# Altium footprint library Motion Controller.PcbLib: 208 footprints (part 12 of 13)
Each footprint in its own frame and in the unit in brackets; x right, y up, seen from the top. Pads: shape width x height; smd on the part's side, far side on the other; paste and mask are expansions set on the pad; w line width, h text height; cw(c..) or ccw(c..) is an arc to the next point about the centre after c.
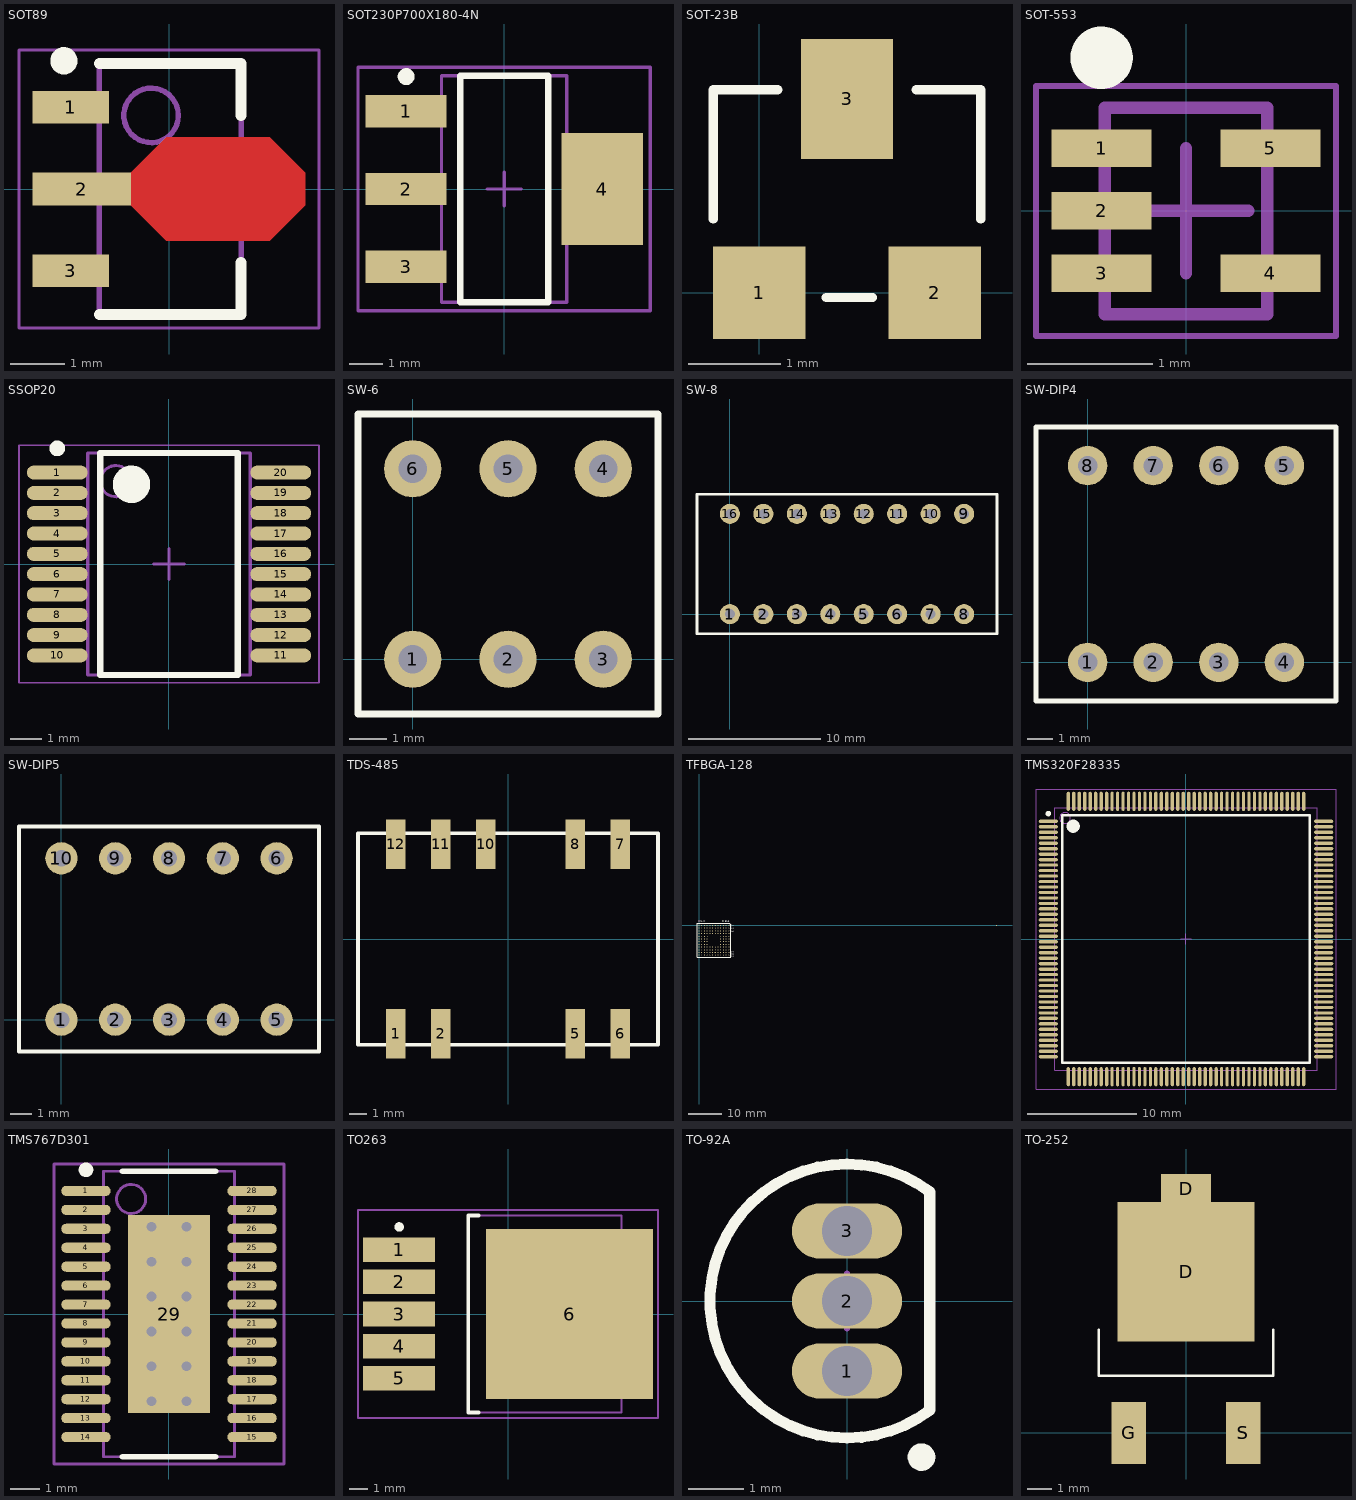
[diagram p11: the footprints below, top view; thin cyan lines are the x and y axes]

## SOT89 [mm] "SOT89, 3-Leads, Body 4.50x2.45mm, Pitch 1.50mm, Lead Span 4.1mm, IPC Medium Density"
height 1.5
pads (3):
  rect 1.4x0.6 smd: 1(-1.8,1.5) 3(-1.8,-1.5)
  rect 1.8x0.6 smd: 2(-1.6,0)
Top Layer:
  region: -0.7,0.3 -0.05,0.95 1.85,0.95 2.5,0.3 2.5,-0.3 1.85,-0.95 -0.05,-0.95 -0.7,-0.3
Top Overlay:
  circle w0.25: c-1.927,2.35 r0.125
  lines w0.2: -1.278,-2.3 1.322,-2.3 1.322,-1.35 ; -1.278,2.3 1.322,2.3 1.322,1.35
Mechanical 13:
  circle w0.1: c-0.327,1.35 r0.5
  lines w0.1: -1.278,-2.3 1.322,-2.3 1.322,2.3 -1.278,2.3 -1.278,-2.3
Mechanical 15:
  lines w0.05: -2.75,-2.55 2.75,-2.55 2.75,2.55 -2.75,2.55 -2.75,-2.55
  lines w0.1: -0.477,0 0.523,0 ; 0.022,-0.5 0.022,0.5
3D body: height 1.5, standoff 0, extent -1.278,-2.3 1.322,2.3

## SOT230P700X180-4N [mm] "SOT223, 4-Leads, Body 6.7x7.3mm (max), Pitch 2.30mm, IPC Medium Density"
height 1.8
pads (4):
  rect 2.4x0.95 smd: 1(-2.9,2.3) 2(-2.9,0) 3(-2.9,-2.3)
  rect 2.4x3.3 smd: 4(2.9,0)
Top Overlay:
  circle w0.25: c-2.9,3.325 r0.125
  lines w0.2: -1.3,-3.35 1.3,-3.35 1.3,3.35 -1.3,3.35 -1.3,-3.35
Mechanical 13:
  lines w0.1: -1.855,-3.35 1.855,-3.35 1.855,3.35 -1.855,3.35 -1.855,-3.35
Mechanical 15:
  lines w0.1: -0.5,0 0.5,0 ; 0,-0.5 0,0.5 ; -4.325,-3.6 4.325,-3.6 4.325,3.6 -4.325,3.6 -4.325,-3.6
3D body: height 1.8, standoff 0.03, extent -1.855,-3.35 1.855,3.35

## SOT-23B [mm]
pads (3):
  rect 1x1 smd: 1(0,0) 2(1.9,0)
  rect 1x1.3 smd: 3(0.95,2.1)
Top Overlay:
  lines w0.1: -0.5,0.8 -0.5,2.2 0.2,2.2 ; 0.725,-0.05 1.225,-0.05 ; 1.7,2.2 2.4,2.2 2.4,0.8

## SOT-553 [mm] "SOTFL, 5-Leads, Body 1.60x1.60mm, Pitch 0.50mm, IPC Medium Density"
height 0.57
pads (5):
  rect 0.8x0.3 smd: 1(-0.675,0.5) 2(-0.675,0) 3(-0.675,-0.5) 4(0.675,-0.5) 5(0.675,0.5)
Top Overlay:
  circle w0.25: c-0.675,1.225 r0.125
Mechanical 13:
  lines w0.1: -0.65,-0.825 -0.65,0.825 0.65,0.825 0.65,-0.825 -0.65,-0.825
Mechanical 15:
  lines w0.05: -1.2,-1 -1.2,1 1.2,1 1.2,-1 -1.2,-1
  lines w0.1: -0.5,0 0.5,0 ; 0,-0.5 0,0.5
3D body: height 0.57, standoff 0, extent -0.65,-0.825 0.65,0.825

## SSOP20 [mm]
height 2
pads (20):
  oval 1.95x0.45 smd: 1(-3.575,2.925) 2(-3.575,2.275) 3(-3.575,1.625) 4(-3.575,0.975) 5(-3.575,0.325) 6(-3.575,-0.325) 7(-3.575,-0.975) 8(-3.575,-1.625) 9(-3.575,-2.275) 10(-3.575,-2.925) 11(3.575,-2.925) 12(3.575,-2.275) 13(3.575,-1.625) 14(3.575,-0.975) 15(3.575,-0.325) 16(3.575,0.325) 17(3.575,0.975) 18(3.575,1.625) 19(3.575,2.275) 20(3.575,2.925)
Top Overlay:
  circle w0.6: c-1.2,2.55 r0.3
  circle w0.25: c-3.575,3.7 r0.125
  lines w0.2: -2.2,-3.55 2.2,-3.55 2.2,3.55 -2.2,3.55 -2.2,-3.55
Mechanical 13:
  circle w0.1: c-1.7,2.65 r0.5
  lines w0.1: -2.6,-3.55 2.6,-3.55 2.6,3.55 -2.6,3.55 -2.6,-3.55
Mechanical 15:
  lines w0.05: -4.8,-3.8 4.8,-3.8 4.8,3.8 -4.8,3.8 -4.8,-3.8
  lines w0.1: -0.5,0 0.5,0 ; 0,-0.5 0,0.5
3D body: height 2, standoff 0.05, extent -2.6,-3.55 2.6,3.55

## SW-6 [mil]
pads (6):
  round 60 hole 30: 1(0,0) 2(100,0) 3(200,0) 4(200,200) 5(100,200) 6(0,200)
Top Overlay:
  lines w7.87: -57.48,-57.48 257.48,-57.48 257.48,257.48 -57.48,257.48 -57.48,-57.48

## SW-8 [mil]
pads (16):
  round 60 hole 30: 1(0,0) 2(100,0) 3(200,0) 4(300,0) 5(400,0) 6(500,0) 7(600,0) 8(700,0) 9(700,300) 10(600,300) 11(500,300) 12(400,300) 13(300,300) 14(200,300) 15(100,300) 16(0,300)
Top Overlay:
  lines w7.87: -98.43,-59.06 798.43,-59.06 798.43,359.06 -98.43,359.06 -98.43,-59.06

## SW-DIP4 [mil]
pads (8):
  round 60 hole 30: 1(0,0) 2(100,0) 3(200,0) 4(300,0) 5(300,300) 6(200,300) 7(100,300) 8(0,300)
Top Overlay:
  lines w7.87: -78.74,-59.06 378.74,-59.06 378.74,359.06 -78.74,359.06 -78.74,-59.06

## SW-DIP5 [mil]
pads (10):
  round 60 hole 30: 1(0,0) 2(100,0) 3(200,0) 4(300,0) 5(400,0) 6(400,300) 7(300,300) 8(200,300) 9(100,300) 10(0,300)
Top Overlay:
  lines w7.87: -78.74,-59.06 -78.74,359.06 478.74,359.06 478.74,-59.06 -78.74,-59.06

## TDS-485 [mm]
pads (9):
  rect 1.1x2.8 smd: 1(-6.35,-5.37) 2(-3.81,-5.37) 5(3.81,-5.37) 6(6.35,-5.37) 7(6.35,5.37) 8(3.81,5.37) 10(-1.27,5.37) 11(-3.81,5.37) 12(-6.35,5.37)
Top Overlay:
  lines w0.2: -8.5,-6 -8.5,6 8.5,6 8.5,-6 -8.5,-6

## TFBGA-128 [mm]
pads (129):
  round 0.3 smd: 1(88,0) A1(8.8,0) A2(8.8,-0.8) A3(8.8,-1.6) A4(8.8,-2.4) A5(8.8,-3.2) A6(8.8,-4) A7(8.8,-4.8) A8(8.8,-5.6) A9(8.8,-6.4) A10(8.8,-7.2) A11(8.8,-8) A12(8.8,-8.8) B1(8,0) B2(8,-0.8) B3(8,-1.6) B4(8,-2.4) B5(8,-3.2) B6(8,-4) B7(8,-4.8) B8(8,-5.6) B9(8,-6.4) B10(8,-7.2) B11(8,-8) B12(8,-8.8) C1(7.2,0) C2(7.2,-0.8) C3(7.2,-1.6) C4(7.2,-2.4) C5(7.2,-3.2) C6(7.2,-4) C7(7.2,-4.8) C8(7.2,-5.6) C9(7.2,-6.4) C10(7.2,-7.2) C11(7.2,-8) C12(7.2,-8.8) D1(6.4,0) D2(6.4,-0.8) D3(6.4,-1.6) D4(6.4,-2.4) D5(6.4,-3.2) D6(6.4,-4) D7(6.4,-4.8) D8(6.4,-5.6) D9(6.4,-6.4) D10(6.4,-7.2) D11(6.4,-8) D12(6.4,-8.8) E1(5.6,0) E2(5.6,-0.8) E3(5.6,-1.6) E4(5.6,-2.4) E9(5.6,-6.4) E10(5.6,-7.2) E11(5.6,-8) E12(5.6,-8.8) F1(4.8,0) F2(4.8,-0.8) F3(4.8,-1.6) F4(4.8,-2.4) F9(4.8,-6.4) F10(4.8,-7.2) F11(4.8,-8) F12(4.8,-8.8) G1(4,0) G2(4,-0.8) G3(4,-1.6) G4(4,-2.4) G9(4,-6.4) G10(4,-7.2) G11(4,-8) G12(4,-8.8) H1(3.2,0) H2(3.2,-0.8) H3(3.2,-1.6) H4(3.2,-2.4) H9(3.2,-6.4) H10(3.2,-7.2) H11(3.2,-8) H12(3.2,-8.8) J1(2.4,0) J2(2.4,-0.8) J3(2.4,-1.6) J4(2.4,-2.4) J5(2.4,-3.2) J6(2.4,-4) J7(2.4,-4.8) J8(2.4,-5.6) J9(2.4,-6.4) J10(2.4,-7.2) J11(2.4,-8) J12(2.4,-8.8) K1(1.6,0) K2(1.6,-0.8) K3(1.6,-1.6) K4(1.6,-2.4) K5(1.6,-3.2) K6(1.6,-4) K7(1.6,-4.8) K8(1.6,-5.6) K9(1.6,-6.4) K10(1.6,-7.2) K11(1.6,-8) K12(1.6,-8.8) L1(0.8,0) L2(0.8,-0.8) L3(0.8,-1.6) L4(0.8,-2.4) L5(0.8,-3.2) L6(0.8,-4) L7(0.8,-4.8) L8(0.8,-5.6) L9(0.8,-6.4) L10(0.8,-7.2) L11(0.8,-8) L12(0.8,-8.8) M1(0,0) M2(0,-0.8) M3(0,-1.6) M4(0,-2.4) M5(0,-3.2) M6(0,-4) M7(0,-4.8) M8(0,-5.6) M9(0,-6.4) M10(0,-7.2) M11(0,-8) M12(0,-8.8)
Top Overlay:
  lines w0.1: -0.6,-9.4 -0.6,0.6 9,0.6 9.4,0.2 9.4,-9.4 -0.6,-9.4
  text "1" at 9.652,0.127 h0.5
  text "2" at 9.652,-0.635 h0.5
  text "3" at 9.652,-1.524 h0.5
  text "......" at 9.906,-2.794 h0.5
  text "11" at 9.652,-7.62 h0.5
  text "12" at 9.652,-8.509 h0.5
  text "A" at 8.509,0.889 h0.5
  text "B" at 7.747,0.889 h0.5
  text "......" at 2.921,1.143 h0.5
  text "K" at 1.397,0.889 h0.5
  text "L" at 0.635,0.889 h0.5
  text "M" at -0.127,0.889 h0.5
  text "C" at 6.858,0.889 h0.5

## TMS320F28335 [mm] "TSQFP, 176-Leads, Body 26.2x26.2mm (max), Pitch 0.50mm, IPC Medium Density"
height 1.6
pads (176):
  oval 1.75x0.3 smd: 1(-12.575,10.75) 2(-12.575,10.25) 3(-12.575,9.75) 4(-12.575,9.25) 5(-12.575,8.75) 6(-12.575,8.25) 7(-12.575,7.75) 8(-12.575,7.25) 9(-12.575,6.75) 10(-12.575,6.25) 11(-12.575,5.75) 12(-12.575,5.25) 13(-12.575,4.75) 14(-12.575,4.25) 15(-12.575,3.75) 16(-12.575,3.25) 17(-12.575,2.75) 18(-12.575,2.25) 19(-12.575,1.75) 20(-12.575,1.25) 21(-12.575,0.75) 22(-12.575,0.25) 23(-12.575,-0.25) 24(-12.575,-0.75) 25(-12.575,-1.25) 26(-12.575,-1.75) 27(-12.575,-2.25) 28(-12.575,-2.75) 29(-12.575,-3.25) 30(-12.575,-3.75) 31(-12.575,-4.25) 32(-12.575,-4.75) 33(-12.575,-5.25) 34(-12.575,-5.75) 35(-12.575,-6.25) 36(-12.575,-6.75) 37(-12.575,-7.25) 38(-12.575,-7.75) 39(-12.575,-8.25) 40(-12.575,-8.75) 41(-12.575,-9.25) 42(-12.575,-9.75) 43(-12.575,-10.25) 44(-12.575,-10.75) 89(12.575,-10.75) 90(12.575,-10.25) 91(12.575,-9.75) 92(12.575,-9.25) 93(12.575,-8.75) 94(12.575,-8.25) 95(12.575,-7.75) 96(12.575,-7.25) 97(12.575,-6.75) 98(12.575,-6.25) 99(12.575,-5.75) 100(12.575,-5.25) 101(12.575,-4.75) 102(12.575,-4.25) 103(12.575,-3.75) 104(12.575,-3.25) 105(12.575,-2.75) 106(12.575,-2.25) 107(12.575,-1.75) 108(12.575,-1.25) 109(12.575,-0.75) 110(12.575,-0.25) 111(12.575,0.25) 112(12.575,0.75) 113(12.575,1.25) 114(12.575,1.75) 115(12.575,2.25) 116(12.575,2.75) 117(12.575,3.25) 118(12.575,3.75) 119(12.575,4.25) 120(12.575,4.75) 121(12.575,5.25) 122(12.575,5.75) 123(12.575,6.25) 124(12.575,6.75) 125(12.575,7.25) 126(12.575,7.75) 127(12.575,8.25) 128(12.575,8.75) 129(12.575,9.25) 130(12.575,9.75) 131(12.575,10.25) 132(12.575,10.75)
  oval 0.3x1.75 smd: 45(-10.75,-12.575) 46(-10.25,-12.575) 47(-9.75,-12.575) 48(-9.25,-12.575) 49(-8.75,-12.575) 50(-8.25,-12.575) 51(-7.75,-12.575) 52(-7.25,-12.575) 53(-6.75,-12.575) 54(-6.25,-12.575) 55(-5.75,-12.575) 56(-5.25,-12.575) 57(-4.75,-12.575) 58(-4.25,-12.575) 59(-3.75,-12.575) 60(-3.25,-12.575) 61(-2.75,-12.575) 62(-2.25,-12.575) 63(-1.75,-12.575) 64(-1.25,-12.575) 65(-0.75,-12.575) 66(-0.25,-12.575) 67(0.25,-12.575) 68(0.75,-12.575) 69(1.25,-12.575) 70(1.75,-12.575) 71(2.25,-12.575) 72(2.75,-12.575) 73(3.25,-12.575) 74(3.75,-12.575) 75(4.25,-12.575) 76(4.75,-12.575) 77(5.25,-12.575) 78(5.75,-12.575) 79(6.25,-12.575) 80(6.75,-12.575) 81(7.25,-12.575) 82(7.75,-12.575) 83(8.25,-12.575) 84(8.75,-12.575) 85(9.25,-12.575) 86(9.75,-12.575) 87(10.25,-12.575) 88(10.75,-12.575) 133(10.75,12.575) 134(10.25,12.575) 135(9.75,12.575) 136(9.25,12.575) 137(8.75,12.575) 138(8.25,12.575) 139(7.75,12.575) 140(7.25,12.575) 141(6.75,12.575) 142(6.25,12.575) 143(5.75,12.575) 144(5.25,12.575) 145(4.75,12.575) 146(4.25,12.575) 147(3.75,12.575) 148(3.25,12.575) 149(2.75,12.575) 150(2.25,12.575) 151(1.75,12.575) 152(1.25,12.575) 153(0.75,12.575) 154(0.25,12.575) 155(-0.25,12.575) 156(-0.75,12.575) 157(-1.25,12.575) 158(-1.75,12.575) 159(-2.25,12.575) 160(-2.75,12.575) 161(-3.25,12.575) 162(-3.75,12.575) 163(-4.25,12.575) 164(-4.75,12.575) 165(-5.25,12.575) 166(-5.75,12.575) 167(-6.25,12.575) 168(-6.75,12.575) 169(-7.25,12.575) 170(-7.75,12.575) 171(-8.25,12.575) 172(-8.75,12.575) 173(-9.25,12.575) 174(-9.75,12.575) 175(-10.25,12.575) 176(-10.75,12.575)
Top Overlay:
  circle w0.25: c-12.575,11.45 r0.125
  circle w0.6: c-10.3,10.3 r0.3
  lines w0.2: -11.3,-11.3 -11.3,11.3 11.3,11.3 11.3,-11.3 -11.3,-11.3
Mechanical 13:
  circle w0.1: c-11.05,11.05 r0.5
  lines w0.1: -12,-12 -12,12 12,12 12,-12 -12,-12
Mechanical 15:
  lines w0.1: -0.5,0 0.5,0 ; 0,-0.5 0,0.5 ; -13.7,-13.7 -13.7,13.7 13.7,13.7 13.7,-13.7 -13.7,-13.7
3D body: height 1.6, standoff 0.25, extent -12,-12 12,12

## TMS767D301 [mm]
pads (29):
  oval 1.7x0.35 smd: 1(-2.85,4.225) 2(-2.85,3.575) 3(-2.85,2.925) 4(-2.85,2.275) 5(-2.85,1.625) 6(-2.85,0.975) 7(-2.85,0.325) 8(-2.85,-0.325) 9(-2.85,-0.975) 10(-2.85,-1.625) 11(-2.85,-2.275) 12(-2.85,-2.925) 13(-2.85,-3.575) 14(-2.85,-4.225) 15(2.85,-4.225) 16(2.85,-3.575) 17(2.85,-2.925) 18(2.85,-2.275) 19(2.85,-1.625) 20(2.85,-0.975) 21(2.85,-0.325) 22(2.85,0.325) 23(2.85,0.975) 24(2.85,1.625) 25(2.85,2.275) 26(2.85,2.925) 27(2.85,3.575) 28(2.85,4.225)
  rect 2.8x6.8 smd: 29(0,0)
via -0.6,3 diameter 0.66 hole 0.33
via 0.6,3 diameter 0.66 hole 0.33
via -0.6,1.8 diameter 0.66 hole 0.33
via 0.6,1.8 diameter 0.66 hole 0.33
via -0.6,0.6 diameter 0.66 hole 0.33
via 0.6,0.6 diameter 0.66 hole 0.33
via -0.6,-0.6 diameter 0.66 hole 0.33
via 0.6,-0.6 diameter 0.66 hole 0.33
via -0.6,-1.8 diameter 0.66 hole 0.33
via 0.6,-1.8 diameter 0.66 hole 0.33
via -0.6,-3 diameter 0.66 hole 0.33
via 0.6,-3 diameter 0.66 hole 0.33
Top Overlay:
  circle w0.25: c-2.85,4.95 r0.125
  lines w0.2: -1.6,-4.9 1.6,-4.9 ; -1.6,4.9 1.6,4.9
Mechanical 13:
  circle w0.1: c-1.3,3.95 r0.5
  lines w0.1: -2.25,-4.9 -2.25,4.9 2.25,4.9 2.25,-4.9 -2.25,-4.9
Mechanical 15:
  lines w0.1: -0.5,0 0.5,0 ; 0,-0.5 0,0.5 ; -3.95,-5.15 -3.95,5.15 3.95,5.15 3.95,-5.15 -3.95,-5.15
3D body: height 1.2, standoff 0.05, extent -2.25,-4.9 2.25,4.9

## TO263 [mm]
height 4.55
pads (6):
  rect 3.8x1.3 smd: 1(-5.75,3.4) 2(-5.75,1.7) 3(-5.75,0) 4(-5.75,-1.7) 5(-5.75,-3.4)
  rect 8.8x9 smd: 6(3.25,0)
Top Overlay:
  circle w0.25: c-5.75,4.6 r0.125
  lines w0.2: -1.55,-5.2 -2.1,-5.2 -2.1,5.2 -1.55,5.2
Mechanical 13:
  lines w0.1: -2.1,-5.2 5.99,-5.2 5.99,5.2 -2.1,5.2 -2.1,-5.2
Mechanical 15:
  lines w0.1: -0.5,0 0.5,0 ; 0,-0.5 0,0.5 ; -7.925,-5.5 7.925,-5.5 7.925,5.5 -7.925,5.5 -7.925,-5.5
3D body: height 4.55, standoff 0, extent -2.1,-5.2 5.99,5.2

## TO-92A [mm]
pads (3):
  oval 2x1 hole 0.9: 1(0,-1.27) 2(0,0) 3(0,1.27)
Top Overlay:
  circle w0.25: c1.35,-2.83 r0.125
  lines w0.2: 1.5,-1.98 cw(c0,0) 1.5,1.98 1.5,-1.98
Mechanical 13:
  lines w0.1: 1.5,-1.98 cw(c0,0) 1.5,1.98 1.5,-1.98
Mechanical 15:
  lines w0.1: -0.5,0 0.5,0 ; 0,-0.5 0,0.5
3D body: height 6.86, standoff 2.2, extent -2.497,-2.497 1.501,2.497

## TO-252 [mm]
pads (4):
  rect 5.5x5.6 smd: D(0,6.475)
  rect 2x1.2 smd: D(0,9.804)
  rect 1.4x2.5 smd: G(-2.3,0) S(2.3,0)
Top Overlay:
  lines w0.1: -3.5,4.136 -3.5,2.3 3.5,2.3 3.5,4.136